# Altium schematic symbol library 1730_MecParts.SchLib: 8 symbols
Pins are listed as number, name and electrical type; pins without a type are passive.

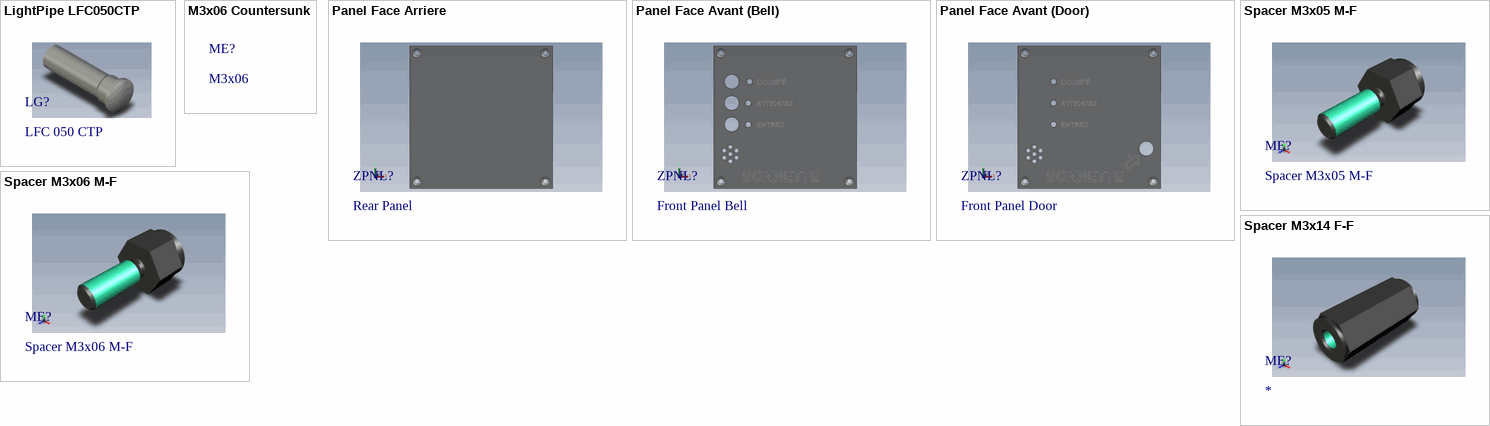
[diagram p0: symbols LightPipe LFC050CTP to Spacer M3x14 F-F]

## LightPipe LFC050CTP
designator LG?, comment LFC 050 CTP
Light Guide pour panneau pour Leds
footprint Light Guide LFC050 (Light huide pour panneau)

## M3x06 Countersunk
designator ME?, comment M3x06
M3x06 Coutersunk screw
footprint M3x06 Screw Height_8 (M3x05 a h=8mm)
footprint M3x06 Screw Height_16 (M3x05 a h=15.9mm)

## Panel Face Arriere
designator ZPNL?, comment Rear Panel
Panneau de face arriere de porte (Portier electronique)
footprint Face Arriere (Panneau de face arriere)

## Panel Face Avant (Bell)
designator ZPNL?, comment Front Panel Bell
Panneau de face avant de porte (Portier electronique)
footprint Face avant Bell (Panel de face avant gravee (door))

## Panel Face Avant (Door)
designator ZPNL?, comment Front Panel Door
Panneau de face avant de porte (Portier electronique)
footprint Face AV Door (Panel de face avant gravee (door))

## Spacer M3x05 M-F
designator ME?
Hexagonal Plastic Spacer Stud, M3x05 M-F; Manufacturer: Wurth Elektronik; Manufacturer Part Number: 971050365; Inner Thread: M3; Inner Thread Length: 3; Outer Thread Length: 8; Wrench: 6; Length: 5; Outer Thread: M3
footprint M3x05_MF_971050365

## Spacer M3x06 M-F
designator ME?
Hexagonal Plastic Spacer Stud, M3x06 M-F; Manufacturer: Wurth Elektronik; Manufacturer Part Number: 971060365; Inner Thread: M3; Inner Thread Length: 3; Outer Thread Length: 8; Wrench: 6; Length: 5; Outer Thread: M3
footprint M3X06_MF_971060365

## Spacer M3x14 F-F
designator ME?
Hexagonal Plastic Spacer Stud, M3x14 F-F; Manufacturer: Wurth Elektronik; Manufacturer Part Number: 970140365; Inner Thread: M3; Inner Thread Length: 14; Wrench: 6; Length: 14
footprint M3x14_FF_970140365